# EAGLE library part 97C08SRT (library SamacSys_Parts)
GRAYHILL - 97C08SRT - DIP SWITCH, 8POS, SPST, SLIDE, SMD Source: Datasheet <https://datasheet.datasheetarchive.com/originals/distributors/Datasheets-DGA6/504943.pdf>
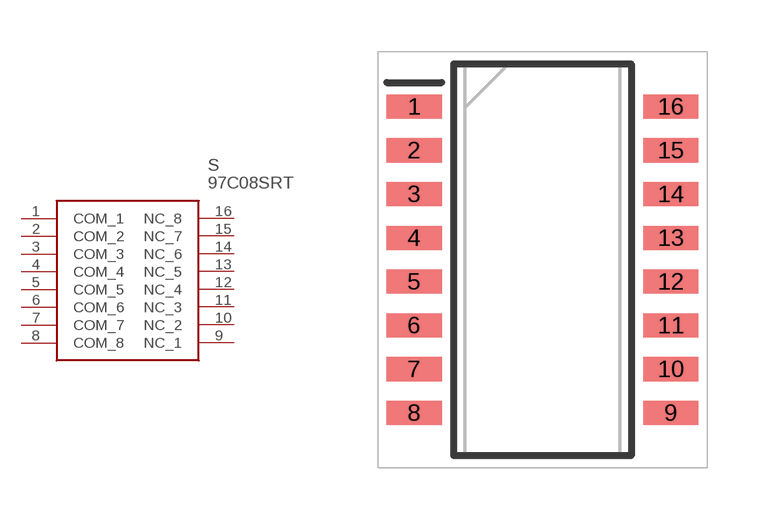
[diagram p3: symbol with the pads of SOIC127P810X164-16N; footprint SOIC127P810X164-16N]

Designator prefix S

## 97C08SRT (DESCRIPTION: GRAYHILL - 97C08SRT - DIP SWITCH, 8POS, SPST, SLIDE, SMD; HEIGHT: 1.64mm; MANUFACTURER_NAME: Grayhill; MANUFACTURER_PART_NUMBER: 97C08SRT; MOUSER_PART_NUMBER: 706-97C08SRT; MOUSER_PRICE-STOCK: https://www.mouser.co.uk/ProductDetail/Grayhill/97C08SRT?qs=ls7QRyWmRk6LC0vJf%252BPRTA%3D%3D)  [SOIC127P810X164-16N]
1  COM_1
2  COM_2
3  COM_3
4  COM_4
5  COM_5
6  COM_6
7  COM_7
8  COM_8
9  NC_1
10  NC_2
11  NC_3
12  NC_4
13  NC_5
14  NC_6
15  NC_7
16  NC_8

## Footprint SOIC127P810X164-16N (pad centres in mm)
Series 97c
smd 1.6 x 0.7: 1 -3.725,4.445; 2 -3.725,3.175; 3 -3.725,1.905; 4 -3.725,0.635; 5 -3.725,-0.635; 6 -3.725,-1.905; 7 -3.725,-3.175; 8 -3.725,-4.445; 9 3.725,-4.445; 10 3.725,-3.175; 11 3.725,-1.905; 12 3.725,-0.635; 13 3.725,0.635; 14 3.725,1.905; 15 3.725,3.175; 16 3.725,4.445